# Altium integrated library TXB0104DR.IntLib: 1 symbol
Pins are listed as number, name and electrical type; pins without a type are passive.

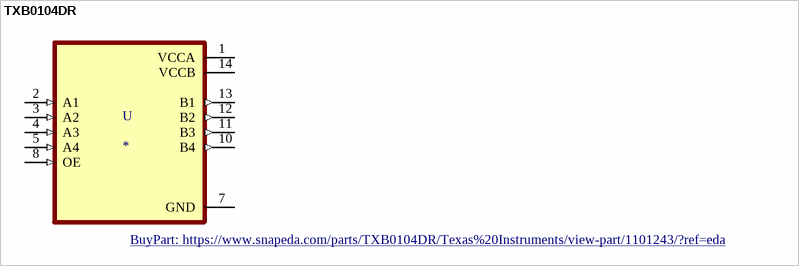
[diagram p0: symbol TXB0104DR]

## TXB0104DR
designator U
4-Bit Bidirectional Voltage-Level Shifter with Auto Direction Sensing and +/-15 kV ESD Protect 14-SOIC -40 to 85; MP: TXB0104DR; MF: Texas Instruments; Package: SOIC-14 Texas Instruments; Availability: Good; SnapEDA_Link: https://www.snapeda.com/parts/TXB0104DR/Texas%20Instruments/view-part/1101243/?ref=snap; DigiKey-Purchase-URL: https://snapeda.com/shop?store=DigiKey&id=1101243; Value: *; Price: None; Mouser-Purchase-URL: https://snapeda.com/shop?store=Mouser&id=1101243; Texas_Instruments-Purchase-URL: https://snapeda.com/shop?store=Texas+Instruments&id=1101243; BuyPart: https://www.snapeda.com/parts/TXB0104DR/Texas%20Instruments/view-part/1101243/?ref=eda
footprint SOIC127P600X175-14N
pins: 1 VCCA (power), 2 A1 (in), 3 A2 (in), 4 A3 (in), 5 A4 (in), 7 GND (power), 8 OE (in), 10 B4 (out), 11 B3 (out), 12 B2 (out), 13 B1 (out), 14 VCCB (power)